# EAGLE library part CD4013/BUT (library CD4013)
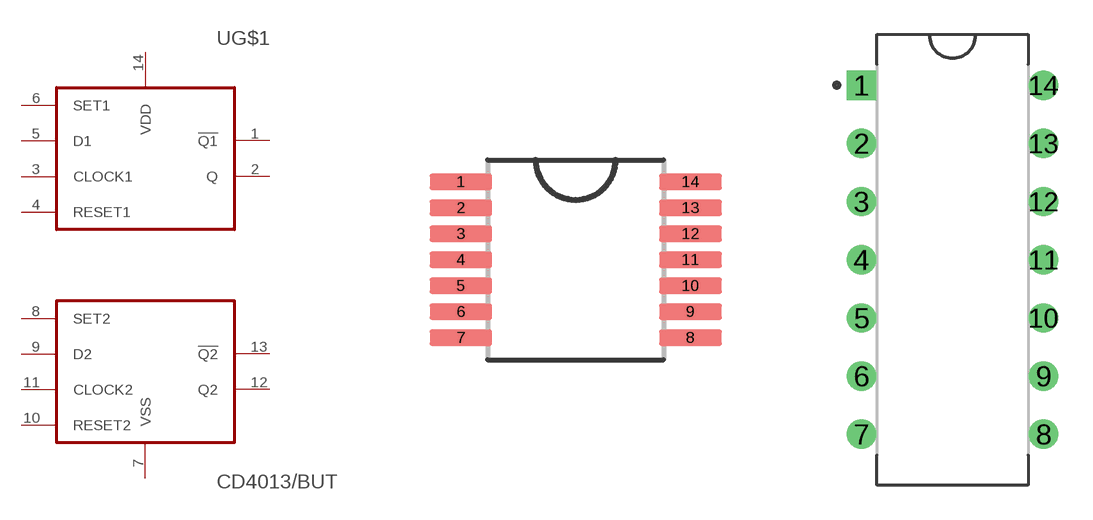
[diagram p1: symbol with the pads of TSSOP-14; footprints TSSOP-14, DIP-14]

Designator prefix -; gates G$1=1 G$2=2

## CD4013/BUT  [TSSOP-14]
1  G$1:!Q1  out
2  G$1:Q  out
3  G$1:CLOCK1  in
4  G$1:RESET1  in
5  G$1:D1  in
6  G$1:SET1  in
7  G$2:VSS  pwr
8  G$2:SET2  in
9  G$2:D2  in
10  G$2:RESET2  in
11  G$2:CLOCK2  in
12  G$2:Q2  out
13  G$2:!Q2  out
14  G$1:VDD  pwr

## CD4013/BUTDIP-14  [DIP-14]
Pads as for TSSOP-14

## CD4013/BUTSOIC-14  [SOIC-14]
Pads as for TSSOP-14

## Footprint TSSOP-14 (pad centres in mm)
smd 1.57 x 0.41: 1 -2.87,1.95; 2 -2.87,1.3; 3 -2.87,0.65; 4 -2.87,0; 5 -2.87,-0.65; 6 -2.87,-1.3; 7 -2.87,-1.95; 8 2.87,-1.95; 9 2.87,-1.3; 10 2.87,-0.65; 11 2.87,0; 12 2.87,0.65; 13 2.87,1.3; 14 2.87,1.95

## Footprint DIP-14 (pad centres in mm)
drill 0.77 pad 1.17 square: 1 -3.97,7.62
drill 0.77 pad 1.17: 2 -3.97,5.08; 3 -3.97,2.54; 4 -3.97,0; 5 -3.97,-2.54; 6 -3.97,-5.08; 7 -3.97,-7.62; 8 3.97,-7.62; 9 3.97,-5.08; 10 3.97,-2.54; 11 3.97,0; 12 3.97,2.54; 13 3.97,5.08; 14 3.97,7.62

## Footprint SOIC-14 (pad centres in mm)
smd 1.97 x 0.6: 1 -2.475,3.81; 2 -2.475,2.54; 3 -2.475,1.27; 4 -2.475,0; 5 -2.475,-1.27; 6 -2.475,-2.54; 7 -2.475,-3.81; 8 2.475,-3.81; 9 2.475,-2.54; 10 2.475,-1.27; 11 2.475,0; 12 2.475,1.27; 13 2.475,2.54; 14 2.475,3.81